# Altium integrated library ST Video Scan Circuit.IntLib: 1 symbol
Pins are listed as number, name and electrical type; pins without a type are passive.

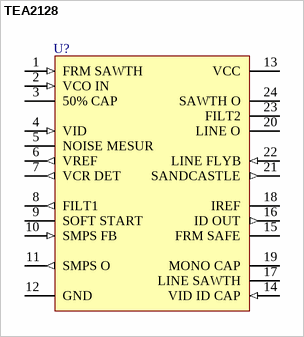
[diagram p0: symbol TEA2128]

## TEA2128
designator U?
Colour TV Scanning and Power Supply Processor; Published: 24-Aug-2001; LatestRevisionDate: 06-Jun-2005; LatestRevisionNote: Stylized 3D Model Added.; DatasheetVersion: Dec-1992; PackageVersion: Nov-1999; PackageReference: PSDIP24; Publisher: Altium Limited; PackageDescription: DIP; 24 Leads; Row Spacing 7.62 mm; Pitch 1.778 mm; ComponentLink1Description: Manufacturer Link; ComponentLink1URL: http://www.st.com/
footprint PSDIP24 (DIP; 24 Leads; Row Spacing 7.62 mm; Pitch 1.778 mm)
3D model PSDIP24 (DIP; 24 Leads; Row Spacing 7.62 mm; Pitch 1.778 mm)
pins: 1 FRM SAWTH (in), 2 VCO IN (in), 3 50% CAP, 4 VID (in), 5 NOISE MESUR, 6 VREF (out), 7 VCR DET (out), 8 FILT1 (out), 9 SOFT START, 10 SMPS FB (in), 11 SMPS O (out), 12 GND (power), 13 VCC (power), 14 VID ID CAP (in), 15 FRM SAFE, 16 ID OUT (out), 17 LINE SAWTH, 18 IREF, 19 MONO CAP, 20 LINE O (oc), 21 SANDCASTLE (out), 22 LINE FLYB (in), 23 FILT2, 24 SAWTH O (oe)